# Altium schematic symbol library ATSAM3X8CA-AU.SchLib: 1 symbol
Pins are listed as number, name and electrical type; pins without a type are passive.

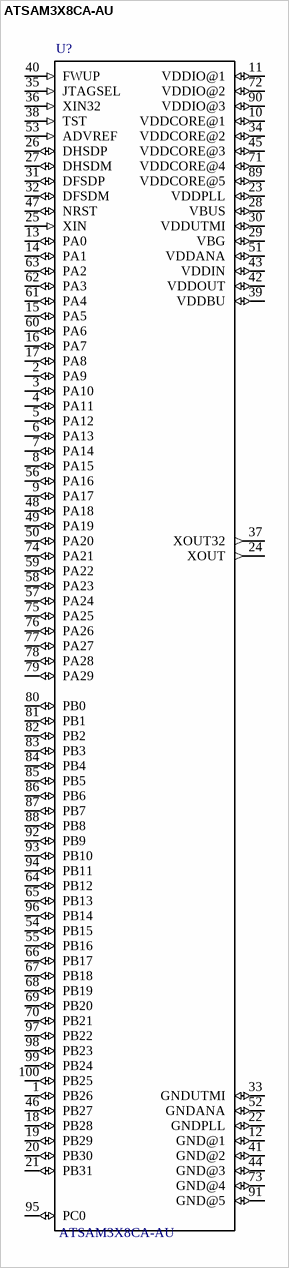
[diagram p0: symbol ATSAM3X8CA-AU]

## ATSAM3X8CA-AU
designator U?
Embedded microcontroller ATSAM3X8CA-AU LQFP 100 _14x14_ Microchip Technology 32-Bit 84 MHz I/O number 63; Digi-Key_Purchase_URL: https://www.digikey.com/product-detail/en/microchip-technology/ATSAM3X8CA-AU/ATSAM3X8CA-AU-ND/3128645?utm_source=snapeda&utm_medium=aggregator&utm_campaign=symbol; SnapEDA_Link: https://www.snapeda.com/parts/ATSAM3X8CA-AU/Microchip/view-part/?ref=snap; MF: Microchip; Package: LQFP-100 Microchip; Digi-Key_Part_Number: ATSAM3X8CA-AU-ND; MP: ATSAM3X8CA-AU; Value: *
footprint *QFP50P1600X1600X160-100N
pins: 1 PB26 (io), 2 PA9 (io), 3 PA10 (io), 4 PA11 (io), 5 PA12 (io), 6 PA13 (io), 7 PA14 (io), 8 PA15 (io), 9 PA17 (io), 10 VDDCORE@1 (io), 11 VDDIO@1 (io), 12 GND@1 (io), 13 PA0 (io), 14 PA1 (io), 15 PA5 (io), 16 PA7 (io), 17 PA8 (io), 18 PB28 (io), 19 PB29 (io), 20 PB30 (io), 21 PB31 (io), 22 GNDPLL (io), 23 VDDPLL (io), 24 XOUT (out), 25 XIN (in), 26 DHSDP (io), 27 DHSDM (io), 28 VBUS (io), 29 VBG (io), 30 VDDUTMI (io), 31 DFSDP (io), 32 DFSDM (io), 33 GNDUTMI (io), 34 VDDCORE@2 (io), 35 JTAGSEL (in), 36 XIN32 (in), 37 XOUT32 (out), 38 TST (in), 39 VDDBU (io), 40 FWUP (in), 41 GND@2 (io), 42 VDDOUT (io), 43 VDDIN (io), 44 GND@3 (io), 45 VDDCORE@3 (io), 46 PB27 (io), 47 NRST (io), 48 PA18 (io), 49 PA19 (io), 50 PA20 (io), 51 VDDANA (io), 52 GNDANA (io), 53 ADVREF (in), 54 PB15 (io), 55 PB16 (io), 56 PA16 (io), 57 PA24 (io), 58 PA23 (io), 59 PA22 (io), 60 PA6 (io), 61 PA4 (io), 62 PA3 (io), 63 PA2 (io), 64 PB12 (io), 65 PB13 (io), 66 PB17 (io), 67 PB18 (io), 68 PB19 (io), 69 PB20 (io), 70 PB21 (io), 71 VDDCORE@4 (io), 72 VDDIO@2 (io), 73 GND@4 (io), 74 PA21 (io), 75 PA25 (io), 76 PA26 (io), 77 PA27 (io), 78 PA28 (io), 79 PA29 (io), 80 PB0 (io), 81 PB1 (io), 82 PB2 (io), 83 PB3 (io), 84 PB4 (io), 85 PB5 (io), 86 PB6 (io), 87 PB7 (io), 88 PB8 (io), 89 VDDCORE@5 (io), 90 VDDIO@3 (io), 91 GND@5 (io), 92 PB9 (io), 93 PB10 (io), 94 PB11 (io), 95 PC0 (io), 96 PB14 (io), 97 PB22 (io), 98 PB23 (io), 99 PB24 (io), 100 PB25 (io)